# Altium footprint library LPON_DISPLAY.PcbLib: 26 footprints (part 2 of 2)
Each footprint in its own frame and in the unit in brackets; x right, y up, seen from the top. Pads: shape width x height; smd on the part's side, far side on the other; paste and mask are expansions set on the pad; w line width, h text height; cw(c..) or ccw(c..) is an arc to the next point about the centre after c.
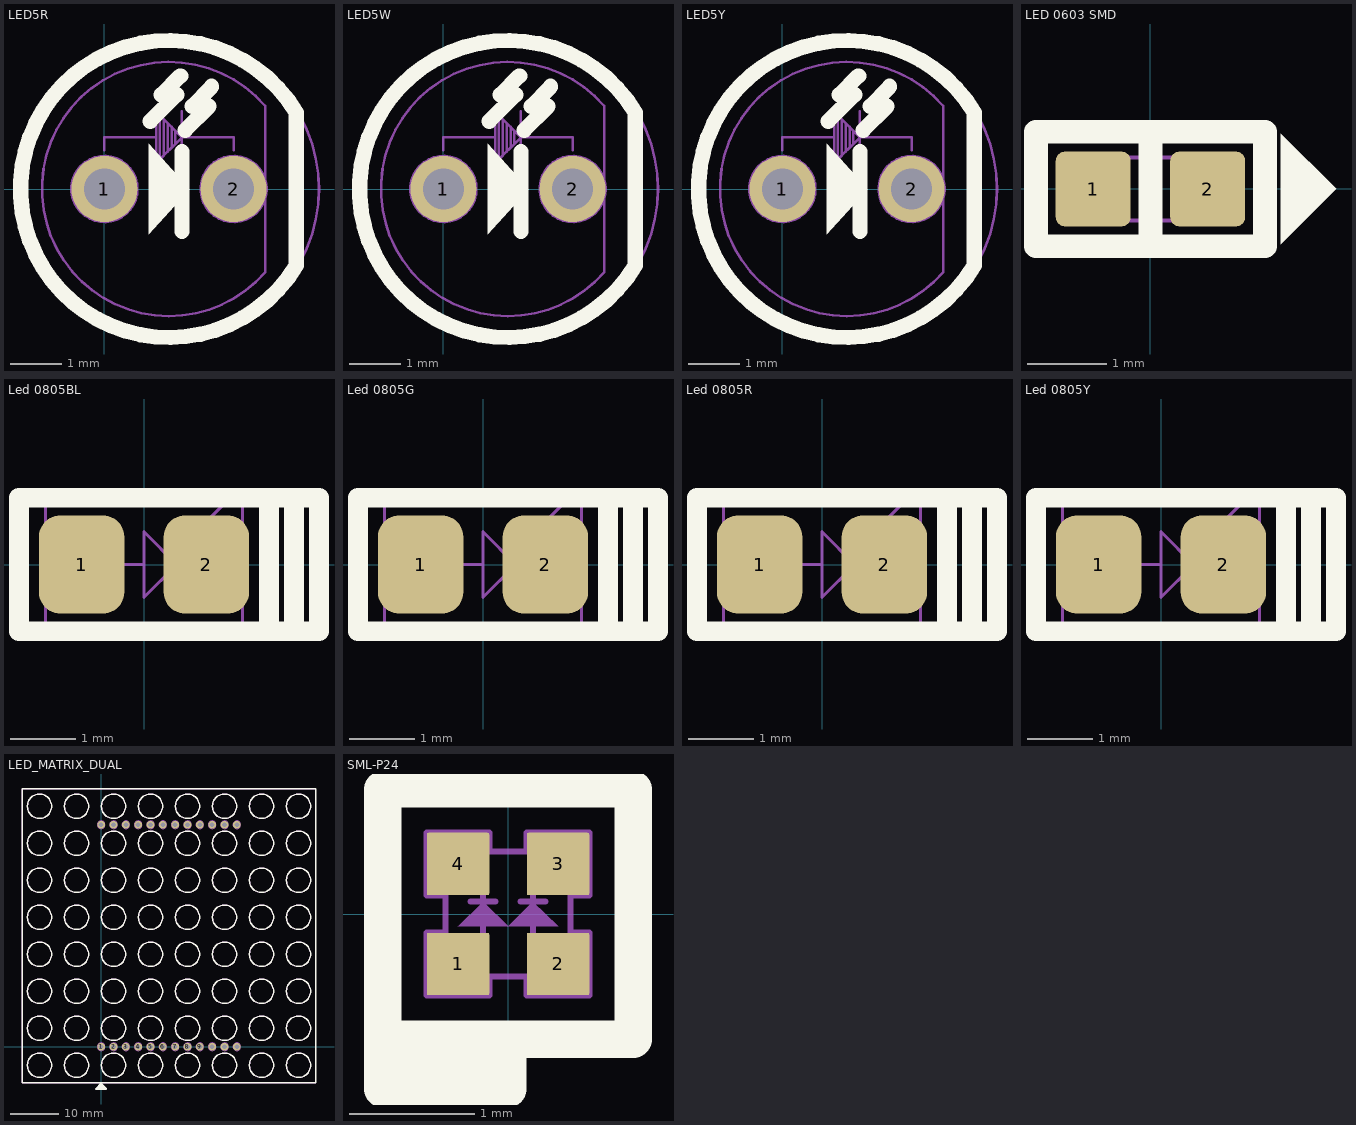
[diagram p1: the footprints below, top view; thin cyan lines are the x and y axes]

## LED5R [mm] "LED, RED, 2 LEAD, 5mm"
height 8.6
pads (2):
  round 1.3 hole 0.8: 1(0,0) 2(2.54,0)
Top Overlay:
  region: 1.676,0 0.876,0.889 0.876,-0.889
  lines w0.3: 0.902,1.333 1.422,1.854 1.118,1.854 1.486,2.222 1.499,2.222 ; 1.524,-0.838 1.524,0.737 ; 1.587,1.156 2.057,1.626 1.727,1.626 2.108,2.007 2.108,2.019 ; 3.775,-1.503 cw(c1.27,0) 3.775,1.503 3.775,-1.503
Mechanical 1:
  circle w0.05: c1.27,0 r2.95
  circle w0.05: c0,0 r0.65
  circle w0.05: c2.54,0 r0.65
  lines w0.05: 0,0.762 0,1.016 1.016,1.016 ; 1.092,1.448 1.092,0.584 ; 1.168,1.372 1.168,0.66 1.092,0.584 ; 1.245,1.295 1.245,0.737 1.321,0.813 ; 1.321,1.219 1.321,0.813 ; 1.397,1.143 1.397,0.889 1.321,0.813 ; 1.524,0.508 1.524,1.524 ; 2.54,0.762 2.54,1.016 2.286,1.016 1.524,1.016 ; 3.159,1.637 ccw(c1.27,0) 3.167,-1.629 ; 3.162,-1.629 3.162,1.637 ; 1.016,0.508 1.092,0.584 ; 1.016,0.508 1.524,1.016 ; 1.016,0.508 1.016,1.524 1.524,1.016
3D body "SW3dPS-LEDd5R.STEP": height 12.31, standoff -2.49, extent -1.71,-3.01 3.71,3.01

## LED5W [mm] "LED, WHITE, 2 LEAD, 5mm"
height 8.6
pads (2):
  round 1.3 hole 0.8: 1(0,0) 2(2.54,0)
Top Overlay:
  region: 1.676,0 0.876,0.889 0.876,-0.889
  lines w0.3: 0.902,1.333 1.422,1.854 1.118,1.854 1.486,2.222 1.499,2.222 ; 1.524,-0.838 1.524,0.737 ; 1.587,1.156 2.057,1.626 1.727,1.626 2.108,2.007 2.108,2.019 ; 3.775,-1.503 cw(c1.27,0) 3.775,1.503 3.775,-1.503
Mechanical 1:
  circle w0.05: c1.27,0 r2.95
  circle w0.05: c0,0 r0.65
  circle w0.05: c2.54,0 r0.65
  lines w0.05: 0,0.762 0,1.016 1.016,1.016 ; 1.092,1.448 1.092,0.584 ; 1.168,1.372 1.168,0.66 1.092,0.584 ; 1.245,1.295 1.245,0.737 1.321,0.813 ; 1.321,1.219 1.321,0.813 ; 1.397,1.143 1.397,0.889 1.321,0.813 ; 1.524,0.508 1.524,1.524 ; 2.54,0.762 2.54,1.016 2.286,1.016 1.524,1.016 ; 3.159,1.637 ccw(c1.27,0) 3.167,-1.629 ; 3.162,-1.629 3.162,1.637 ; 1.016,0.508 1.092,0.584 ; 1.016,0.508 1.524,1.016 ; 1.016,0.508 1.016,1.524 1.524,1.016
3D body "SW3dPS-LEDd5C.STEP": height 12.31, standoff -2.49, extent -1.71,-3.01 3.71,3.01

## LED5Y [mm] "LED, YELLOW, 2 LEAD, 5mm"
height 8.6
pads (2):
  round 1.3 hole 0.8: 1(0,0) 2(2.54,0)
Top Overlay:
  region: 1.676,0 0.876,0.889 0.876,-0.889
  lines w0.3: 0.902,1.333 1.422,1.854 1.118,1.854 1.486,2.222 1.499,2.222 ; 1.524,-0.838 1.524,0.737 ; 1.587,1.156 2.057,1.626 1.727,1.626 2.108,2.007 2.108,2.019 ; 3.775,-1.503 cw(c1.27,0) 3.775,1.503 3.775,-1.503
Mechanical 1:
  circle w0.05: c2.54,0 r0.65
  circle w0.05: c0,0 r0.65
  circle w0.05: c1.27,0 r2.95
  lines w0.05: 0,0.762 0,1.016 1.016,1.016 ; 1.092,1.448 1.092,0.584 ; 1.168,1.372 1.168,0.66 1.092,0.584 ; 1.245,1.295 1.245,0.737 1.321,0.813 ; 1.321,1.219 1.321,0.813 ; 1.397,1.143 1.397,0.889 1.321,0.813 ; 1.524,0.508 1.524,1.524 ; 2.54,0.762 2.54,1.016 2.286,1.016 1.524,1.016 ; 3.159,1.637 ccw(c1.27,0) 3.167,-1.629 ; 3.162,-1.629 3.162,1.637 ; 1.016,0.508 1.016,1.524 1.524,1.016 ; 1.016,0.508 1.524,1.016 ; 1.016,0.508 1.092,0.584
3D body "SW3dPS-LEDd5Y.STEP": height 12.31, standoff -2.49, extent -1.71,-3.01 3.71,3.01

## LED 0603 SMD [mm] "Reflow Soldering"
pads (2):
  rrect25% 0.95x0.95 smd mask+0.1: 1(-0.725,0) 2(0.725,0)
Top Overlay:
  region: 1.65,-0.7 2.35,0 1.65,0.7
  lines w0.3: -1.45,0.725 -1.45,-0.725 1.435,-0.725 ; -1.435,0.725 1.435,0.725 ; 0,-0.725 0,0.725 ; 1.45,-0.725 1.45,0.725
Mechanical 2:
  lines w0.05: -0.1,-0.1 0.1,0.1 ; -0.1,0.1 0.1,-0.1 ; -0.8,-0.4 0.8,-0.4 0.8,0.4 -0.8,0.4 -0.8,-0.4
3D body "User Library-LTST-C190GKT.STEP": height 0.9, standoff 0, extent -0.85,-0.45 0.85,0.45

## Led 0805BL [mm] "Chip LED; BLUE ; Body 2.0 x 1.3 mm (LxW typ)"
height 1.1
pads (2):
  rrect50% 1.3x1.5 smd: 1(-0.95,0) 2(0.95,0)
Top Overlay:
  lines w0.3: 1.905,-1.016 1.905,1.016 ; 2.286,-1.016 2.286,1.016 ; -1.905,-1.016 2.667,-1.016 2.667,1.016 -1.905,1.016 -1.905,-1.016
Mechanical 1:
  lines w0.05: -1.5,-1 -1.5,1.032 ; -0.5,0 0,0 ; 0.5,-0.5 0.5,0.5 ; 0.6,0.5 0.8,0.7 0.8,0.5 1.2,0.9 ; 0.75,0.2 0.95,0.4 0.95,0.2 1.35,0.6 ; 1,0 0.5,0 ; 1.5,-1 1.5,1.032 ; 0.5,0 0,-0.5 0,0.5 0.5,0 ; -1.905,-1 1.905,-1 1.905,1.032 -1.905,1.032 -1.905,-1
3D body "User Library-led_0805.step": height 1.1, standoff 0, extent -1.01,-0.625 1.01,0.625

## Led 0805G [mm] "Chip LED; Green; Body 2.0 x 1.3 mm (LxW typ)"
height 1.1
pads (2):
  rrect50% 1.3x1.5 smd: 1(-0.95,0) 2(0.95,0)
Top Overlay:
  lines w0.3: 1.905,-1.016 1.905,1.016 ; 2.286,-1.016 2.286,1.016 ; -1.905,-1.016 2.667,-1.016 2.667,1.016 -1.905,1.016 -1.905,-1.016
Mechanical 2:
  lines w0.05: -1.5,-1 -1.5,1.032 ; -0.5,0 0,0 ; 0.5,-0.5 0.5,0.5 ; 0.6,0.5 0.8,0.7 0.8,0.5 1.2,0.9 ; 0.75,0.2 0.95,0.4 0.95,0.2 1.35,0.6 ; 1,0 0.5,0 ; 1.5,-1 1.5,1.032 ; 0.5,0 0,0.5 0,-0.5 0.5,0 ; -1.905,-1 1.905,-1 1.905,1.032 -1.905,1.032 -1.905,-1
3D body "User Library-User Library-led_0805 GRE.step": height 1.1, standoff 0, extent -1.035,-0.625 0.985,0.625

## Led 0805R [mm] "Chip LED; RED ; Body 2.0 x 1.3 mm (LxW typ)"
height 1.1
pads (2):
  rrect50% 1.3x1.5 smd: 1(-0.95,0) 2(0.95,0)
Top Overlay:
  lines w0.3: 1.905,-1.016 1.905,1.016 ; 2.286,-1.016 2.286,1.016 ; -1.905,-1.016 2.667,-1.016 2.667,1.016 -1.905,1.016 -1.905,-1.016
Mechanical 1:
  lines w0.05: -1.5,-1 -1.5,1.032 ; -0.5,0 0,0 ; 0.5,-0.5 0.5,0.5 ; 0.6,0.5 0.8,0.7 0.8,0.5 1.2,0.9 ; 0.75,0.2 0.95,0.4 0.95,0.2 1.35,0.6 ; 1,0 0.5,0 ; 1.5,-1 1.5,1.032 ; 0.5,0 0,0.5 0,-0.5 0.5,0 ; -1.905,-1 -1.905,1.032 1.905,1.032 1.905,-1 -1.905,-1
3D body "User Library-User Library-led_0805 R.step": height 1.1, standoff 0, extent -1.01,-0.625 1.01,0.625

## Led 0805Y [mm] "Chip LED; Yellow; Body 2.0 x 1.3 mm (LxW typ)"
height 1.1
pads (2):
  rrect50% 1.3x1.5 smd: 1(-0.95,0) 2(0.95,0)
Top Overlay:
  lines w0.3: 1.905,-1.016 1.905,1.016 ; 2.286,-1.016 2.286,1.016 ; -1.905,-1.016 2.667,-1.016 2.667,1.016 -1.905,1.016 -1.905,-1.016
Mechanical 1:
  lines w0.05: -1.5,-1 -1.5,1.032 ; -0.5,0 0,0 ; 0.5,-0.5 0.5,0.5 ; 0.6,0.5 0.8,0.7 0.8,0.5 1.2,0.9 ; 0.75,0.2 0.95,0.4 0.95,0.2 1.35,0.6 ; 1,0 0.5,0 ; 1.5,-1 1.5,1.032 ; 0.5,0 0,0.5 0,-0.5 0.5,0 ; -1.905,-1 -1.905,1.032 1.905,1.032 1.905,-1 -1.905,-1
3D body "User Library-User Library-led_0805 YEL.step": height 1.1, standoff 0, extent -1.01,-0.625 1.01,0.625

## LED_MATRIX_DUAL [mm] "BODY 60.45mmX60.45mm"
height 9.45
pads (24):
  round 1.6 hole 1 mask+0.1: 1(0,0) 2(2.54,0) 3(5.08,0) 4(7.62,0) 5(10.16,0) 6(12.7,0) 7(15.24,0) 8(17.78,0) 9(20.32,0) 10(22.86,0) 11(25.4,0) 12(27.94,0) 13(27.94,45.72) 14(25.4,45.72) 15(22.86,45.72) 16(20.32,45.72) 17(17.78,45.72) 18(15.24,45.72) 19(12.7,45.72) 20(10.16,45.72) 21(7.62,45.72) 22(5.08,45.72) 23(2.54,45.72) 24(0,45.72)
Top Overlay:
  circle w0.3: c-12.7,11.43 r2.5
  circle w0.3: c-12.7,19.05 r2.5
  circle w0.3: c-12.7,26.67 r2.5
  circle w0.3: c-12.7,34.29 r2.5
  circle w0.3: c-12.7,41.91 r2.5
  circle w0.3: c-12.7,49.53 r2.5
  circle w0.3: c-5.08,11.43 r2.5
  circle w0.3: c-5.08,19.05 r2.5
  circle w0.3: c-5.08,26.67 r2.5
  circle w0.3: c-5.08,34.29 r2.5
  circle w0.3: c-5.08,41.91 r2.5
  circle w0.3: c-5.08,49.53 r2.5
  circle w0.3: c2.54,11.43 r2.5
  circle w0.3: c2.54,19.05 r2.5
  circle w0.3: c2.54,26.67 r2.5
  circle w0.3: c2.54,34.29 r2.5
  circle w0.3: c2.54,41.91 r2.5
  circle w0.3: c2.54,49.53 r2.5
  circle w0.3: c10.16,11.43 r2.5
  circle w0.3: c10.16,19.05 r2.5
  circle w0.3: c10.16,26.67 r2.5
  circle w0.3: c10.16,34.29 r2.5
  circle w0.3: c10.16,41.91 r2.5
  circle w0.3: c10.16,49.53 r2.5
  circle w0.3: c17.78,11.43 r2.5
  circle w0.3: c17.78,19.05 r2.5
  circle w0.3: c17.78,26.67 r2.5
  circle w0.3: c17.78,34.29 r2.5
  circle w0.3: c17.78,41.91 r2.5
  circle w0.3: c17.78,49.53 r2.5
  circle w0.3: c25.4,11.43 r2.5
  circle w0.3: c25.4,19.05 r2.5
  circle w0.3: c25.4,26.67 r2.5
  circle w0.3: c25.4,34.29 r2.5
  circle w0.3: c25.4,41.91 r2.5
  circle w0.3: c25.4,49.53 r2.5
  circle w0.3: c33.02,11.43 r2.5
  circle w0.3: c33.02,19.05 r2.5
  circle w0.3: c33.02,26.67 r2.5
  circle w0.3: c33.02,34.29 r2.5
  circle w0.3: c33.02,41.91 r2.5
  circle w0.3: c33.02,49.53 r2.5
  circle w0.3: c40.64,11.43 r2.5
  circle w0.3: c40.64,19.05 r2.5
  circle w0.3: c40.64,26.67 r2.5
  circle w0.3: c40.64,34.29 r2.5
  circle w0.3: c40.64,41.91 r2.5
  circle w0.3: c40.64,49.53 r2.5
  circle w0.3: c-12.7,3.81 r2.5
  circle w0.3: c-5.08,3.81 r2.5
  circle w0.3: c2.54,3.81 r2.5
  circle w0.3: c10.16,3.81 r2.5
  circle w0.3: c17.78,3.81 r2.5
  circle w0.3: c25.4,3.81 r2.5
  circle w0.3: c33.02,3.81 r2.5
  circle w0.3: c40.64,3.81 r2.5
  circle w0.3: c-12.7,-3.81 r2.5
  circle w0.3: c-5.08,-3.81 r2.5
  circle w0.3: c2.54,-3.81 r2.5
  circle w0.3: c10.16,-3.81 r2.5
  circle w0.3: c17.78,-3.81 r2.5
  circle w0.3: c25.4,-3.81 r2.5
  circle w0.3: c33.02,-3.81 r2.5
  circle w0.3: c40.64,-3.81 r2.5
  lines w0.3: -16.255,-7.365 -16.255,53.085 44.195,53.085 44.195,-7.365 -16.255,-7.365
  lines w0.5: -0.3,-8.6 -0.3,-8 ; 0,-8.7 0,-7.7 ; 0.3,-8.5 0.3,-8 ; 0,-7.7 1,-8.7 -1,-8.7 0,-7.7
Mechanical 1:
  circle w0.05: c-12.7,11.43 r2.5
  circle w0.05: c40.64,41.91 r2.5
  circle w0.05: c10.16,-3.81 r2.5
  circle w0.05: c25.4,19.05 r2.5
  circle w0.05: c25.4,26.67 r2.5
  circle w0.05: c40.64,34.29 r2.5
  circle w0.05: c25.4,34.29 r2.5
  circle w0.05: c33.02,19.05 r2.5
  circle w0.05: c33.02,-3.81 r2.5
  circle w0.05: c33.02,26.67 r2.5
  circle w0.05: c25.4,-3.81 r2.5
  circle w0.05: c40.64,19.05 r2.5
  circle w0.05: c17.78,3.81 r2.5
  circle w0.05: c-5.08,-3.81 r2.5
  circle w0.05: c33.02,34.29 r2.5
  circle w0.05: c33.02,41.91 r2.5
  circle w0.05: c40.64,3.81 r2.5
  circle w0.05: c17.78,41.91 r2.5
  circle w0.05: c17.78,-3.81 r2.5
  circle w0.05: c25.4,41.91 r2.5
  circle w0.05: c-12.7,-3.81 r2.5
  circle w0.05: c25.4,49.53 r2.5
  circle w0.05: c40.64,49.53 r2.5
  circle w0.05: c25.4,3.81 r2.5
  circle w0.05: c40.64,11.43 r2.5
  circle w0.05: c40.64,26.67 r2.5
  circle w0.05: c33.02,49.53 r2.5
  circle w0.05: c17.78,49.53 r2.5
  circle w0.05: c2.54,3.81 r2.5
  circle w0.05: c2.54,-3.81 r2.5
  circle w0.05: c33.02,11.43 r2.5
  circle w0.05: c-12.7,3.81 r2.5
  circle w0.05: c10.16,3.81 r2.5
  circle w0.05: c-5.08,3.81 r2.5
  circle w0.05: c33.02,3.81 r2.5
  circle w0.05: c40.64,-3.81 r2.5
  circle w0.05: c25.4,11.43 r2.5
  circle w0.05: c10.16,26.67 r2.5
  circle w0.05: c-12.7,34.29 r2.5
  circle w0.05: c10.16,11.43 r2.5
  circle w0.05: c2.54,34.29 r2.5
  circle w0.05: c2.54,41.91 r2.5
  circle w0.05: c10.16,19.05 r2.5
  circle w0.05: c2.54,49.53 r2.5
  circle w0.05: c-12.7,41.91 r2.5
  circle w0.05: c2.54,11.43 r2.5
  circle w0.05: c2.54,19.05 r2.5
  circle w0.05: c-12.7,26.67 r2.5
  circle w0.05: c-5.08,11.43 r2.5
  circle w0.05: c2.54,26.67 r2.5
  circle w0.05: c-5.08,19.05 r2.5
  circle w0.05: c-5.08,34.29 r2.5
  circle w0.05: c17.78,26.67 r2.5
  circle w0.05: c-5.08,26.67 r2.5
  circle w0.05: c-5.08,49.53 r2.5
  circle w0.05: c17.78,34.29 r2.5
  circle w0.05: c-5.08,41.91 r2.5
  circle w0.05: c17.78,11.43 r2.5
  circle w0.05: c-12.7,49.53 r2.5
  circle w0.05: c10.16,49.53 r2.5
  circle w0.05: c10.16,34.29 r2.5
  circle w0.05: c17.78,19.05 r2.5
  circle w0.05: c10.16,41.91 r2.5
  circle w0.05: c-12.7,19.05 r2.5
  circle w0.05: c0,0 r0.8
  circle w0.05: c2.54,0 r0.8
  circle w0.05: c5.08,0 r0.8
  circle w0.05: c7.62,0 r0.8
  circle w0.05: c10.16,0 r0.8
  circle w0.05: c12.7,0 r0.8
  circle w0.05: c15.24,0 r0.8
  circle w0.05: c17.78,0 r0.8
  circle w0.05: c20.32,0 r0.8
  circle w0.05: c22.86,0 r0.8
  circle w0.05: c25.4,0 r0.8
  circle w0.05: c27.94,0 r0.8
  circle w0.05: c27.94,45.72 r0.8
  circle w0.05: c25.4,45.72 r0.8
  circle w0.05: c22.86,45.72 r0.8
  circle w0.05: c20.32,45.72 r0.8
  circle w0.05: c17.78,45.72 r0.8
  circle w0.05: c15.24,45.72 r0.8
  circle w0.05: c12.7,45.72 r0.8
  circle w0.05: c10.16,45.72 r0.8
  circle w0.05: c7.62,45.72 r0.8
  circle w0.05: c5.08,45.72 r0.8
  circle w0.05: c2.54,45.72 r0.8
  circle w0.05: c0,45.72 r0.8
  lines w0.05: -0.3,-8.69 -0.3,-8 ; 0,-8.7 0,-7.7 ; 0.3,-8.69 0.3,-8 ; 0,-7.7 -1,-8.7 1,-8.7 0,-7.7 ; -16.255,-7.365 -16.255,53.085 44.195,53.085 44.195,-7.365 -16.255,-7.365
  text "24" at -2.68,45.23 h1
  text "13" at 29.09,45.25 h1
  text "12" at 29.09,-0.48 h1
  text "1" at -1.57,-0.61 h1

## SML-P24 [mm] "Dual Led SMD"
height 0.25
pads (4):
  rrect5% 0.5x0.5 smd mask+0.1: 1(-0.4,-0.4) 2(0.4,-0.4) 3(0.4,0.4) 4(-0.4,0.4)
Top Overlay:
  lines w0.3: -1,-1.2 0,-1.2 ; 0,-1 0,-1.4 -1,-1.4 -1,-1 ; -1,-1 -1,1 1,1 1,-1 -1,-1
Mechanical 1:
  region: 0,-0.1 0.4,-0.1 0.2,0.1
  region: -0.4,-0.1 0,-0.1 -0.2,0.1
  lines w0.05: -0.525,-0.15 -0.65,-0.15 -0.65,-0.65 -0.15,-0.65 -0.15,-0.525 ; -0.525,0.15 -0.65,0.15 -0.65,0.65 -0.15,0.65 -0.15,0.525 ; -0.4,0.3 -0.3,0.2 ; -0.4,0.38 -0.3,0.28 ; -0.3,0.1 -0.1,0.1 ; -0.2,-0.3 -0.2,0 ; -0.2,0.1 -0.2,0.3 ; 0.1,0.1 0.3,0.1 ; 0.15,-0.525 0.15,-0.65 0.65,-0.65 0.65,-0.15 0.525,-0.15 ; 0.15,0.525 0.15,0.65 0.65,0.65 0.65,0.15 0.525,0.15 ; 0.2,-0.3 0.2,0 ; 0.2,0.1 0.2,0.3 ; 0.3,0.2 0.4,0.3 ; 0.3,0.28 0.4,0.38 ; -0.5,-0.5 0.5,-0.5 0.5,0.5 -0.5,0.5 -0.5,-0.5
  text "LED?" at 0,0 h0.8